# Altium footprint library PcbLib1.PcbLib: 264 footprints (part 8 of 17)
Each footprint in its own frame and in the unit in brackets; x right, y up, seen from the top. Pads: shape width x height; smd on the part's side, far side on the other; paste and mask are expansions set on the pad; w line width, h text height; cw(c..) or ccw(c..) is an arc to the next point about the centre after c.
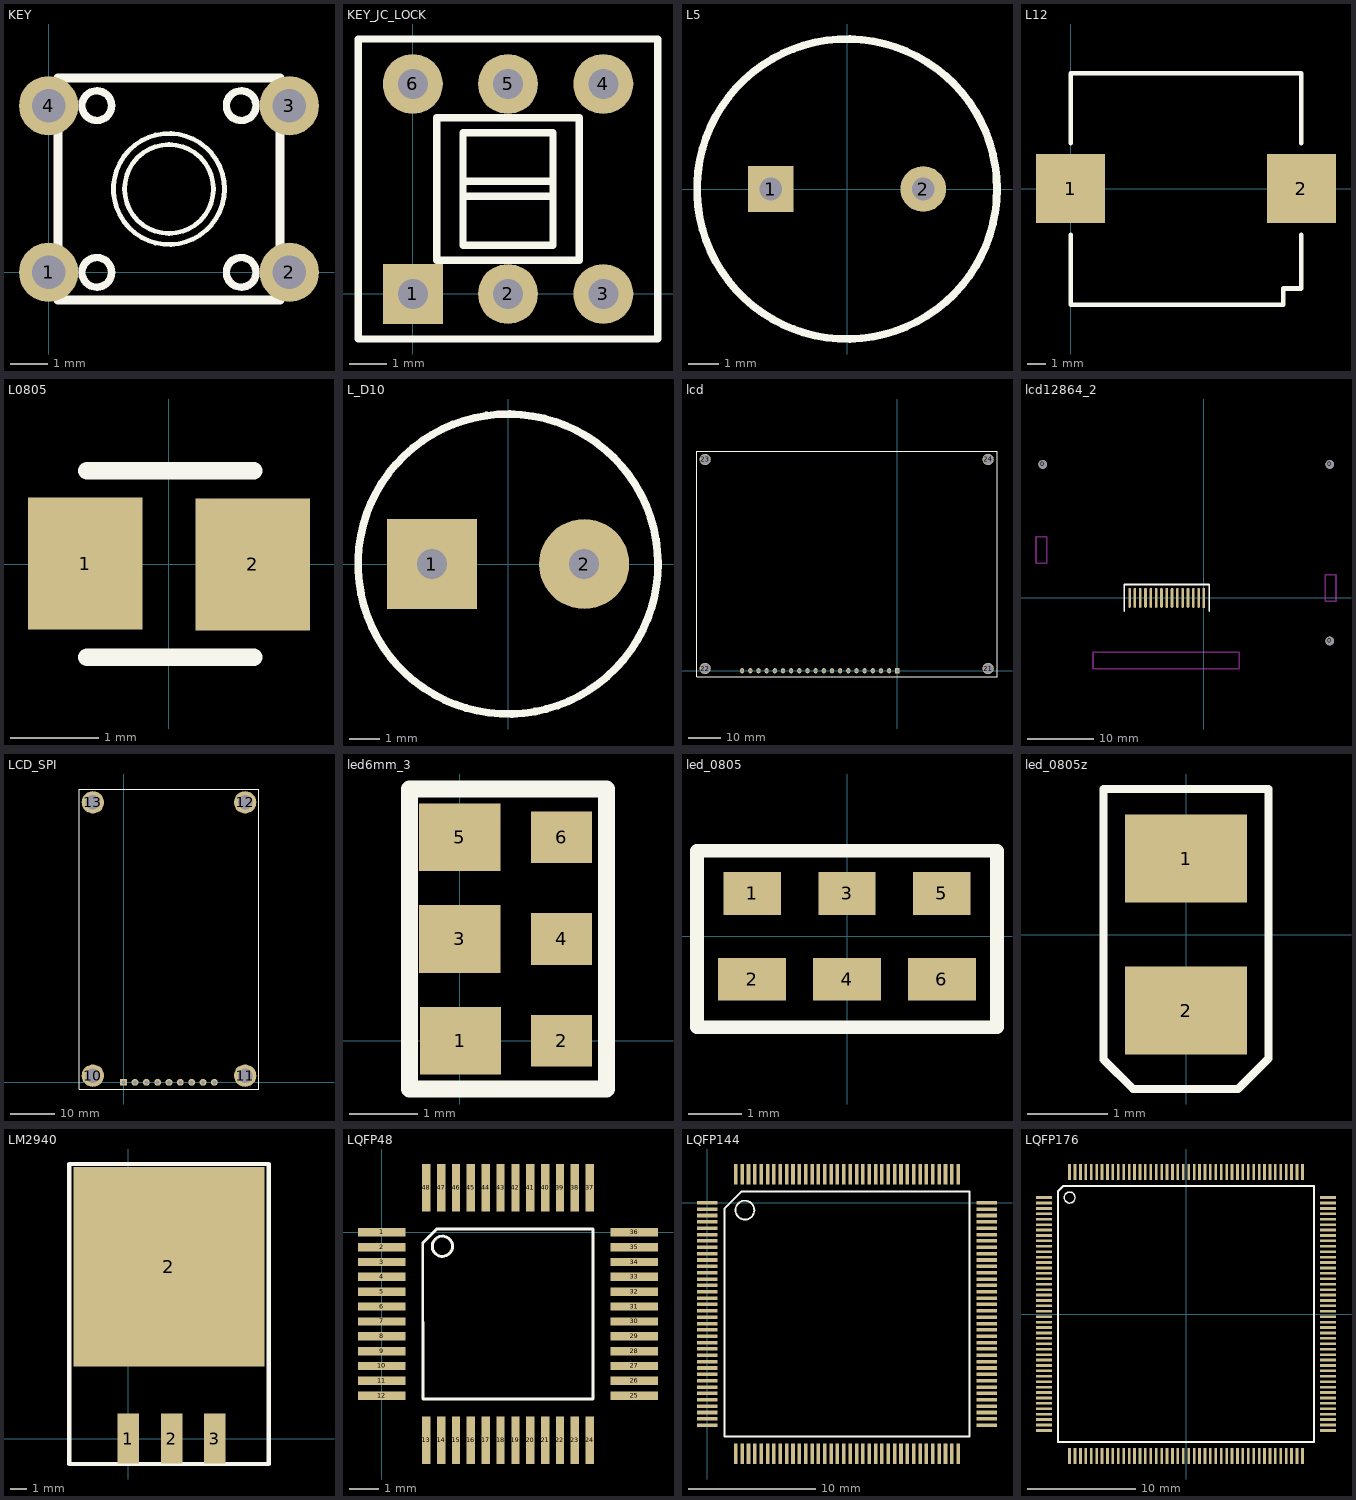
[diagram p7: the footprints below, top view; thin cyan lines are the x and y axes]

## KEY [mm]
pads (4):
  round 1.6 hole 0.9: 1(0,0) 2(6.5,0) 3(6.5,4.5) 4(0,4.5)
Top Overlay:
  circle w0.2: c1.3,0 r0.4
  circle w0.2: c5.2,0 r0.4
  circle w0.2: c5.2,4.5 r0.4
  circle w0.2: c1.3,4.5 r0.4
  circle w0.127: c3.25,2.25 r1.5
  circle w0.127: c3.25,2.25 r1.2
  lines w0.25: 0.25,-0.75 0.25,5.25 6.25,5.25 6.25,-0.75 0.25,-0.75

## KEY_JC_LOCK [mm]
pads (6):
  rect 1.6x1.6 hole 0.8: 1(0,0)
  round 1.6 hole 0.8: 2(2.54,0) 3(5.08,0) 4(5.08,5.6) 5(2.54,5.6) 6(0,5.6)
Top Overlay:
  lines w0.2: 1.34,2.6 3.74,2.6 ; 1.34,3 3.74,3 ; -1.46,-1.2 -1.46,6.8 6.54,6.8 6.54,-1.2 -1.46,-1.2 ; 0.64,0.9 4.44,0.9 4.44,4.7 0.64,4.7 0.64,0.9 ; 1.34,1.3 3.74,1.3 3.74,4.3 1.34,4.3 1.34,1.3

## L5 [mil]
pads (2):
  rect 60x60 hole 30: 1(-100,0)
  round 60 hole 30: 2(100,0)
Top Overlay:
  circle w10: c0,0 r196.85

## L12 [mm]
pads (2):
  rect 3.81x3.81 smd: 1(0,0) 2(12.7,0)
Top Overlay:
  lines w0.254: 0,-2.55 0,-6.4 11.7,-6.4 11.7,-5.5 12.7,-5.5 12.7,-2.55 ; 0,2.5 0,6.35 12.7,6.35 12.7,2.5

## L0805 [mm]
pads (2):
  rect 1.3x1.5 smd: 1(-0.95,0.01) 2(0.95,0)
Top Overlay:
  lines w0.2: -0.93,-1.05 0.96,-1.05 ; -0.93,1.06 0.96,1.06

## L_D10 [mm]
pads (2):
  rect 3x3 hole 1: 1(-2.54,0)
  round 3 hole 1: 2(2.54,0)
Top Overlay:
  lines w0.254: 5,0.031 cw(c0,0) 5,0.046

## lcd [mm]
pads (24):
  rect 1.3x1.6 hole 0.9: 1(0,0)
  oval 1.3x1.6 hole 0.9: 2(-2.54,0) 3(-5.08,0) 4(-7.62,0) 5(-10.16,0) 6(-12.7,0) 7(-15.24,0) 8(-17.78,0) 9(-20.32,0) 10(-22.86,0) 11(-25.4,0) 12(-27.94,0) 13(-30.48,0) 14(-33.02,0) 15(-35.56,0) 16(-38.1,0) 17(-40.64,0) 18(-43.18,0) 19(-45.72,0) 20(-48.26,0)
  round 3.5 hole 3: 21(28.24,0.7) 22(-59.76,0.7) 23(-59.76,65.7) 24(28.24,65.7)
Top Overlay:
  lines w0.254: -62.3,-1.8 -62.3,68.2 31,68.2 31,-1.8 -62.3,-1.8

## lcd12864_2 [mm]
pads (18):
  round 1.3 hole 1.3: 0(-24.3,20.1) 0(18.96,-6.5) 0(18.96,20.1)
  rect 0.4x3 smd: 1(0,0)
  oval 0.4x3 smd: 2(-0.8,0) 3(-1.6,0) 4(-2.4,0) 5(-3.2,0) 6(-4,0) 7(-4.8,0) 8(-5.6,0) 9(-6.4,0) 10(-7.2,0) 11(-8,0) 12(-8.8,0) 13(-9.6,0) 14(-10.4,0) 15(-11.2,0)
Top Overlay:
  lines w0.254: -12,-2 -12,2 0.8,2 0.8,-2
Bottom Overlay:
  lines w0.254: -25.2,-8.5 19.8,-8.5 19.8,20.9 -25.2,20.9 -25.2,-8.5
Keep-Out Layer:
  lines w0.254: -25.3,5.2 -25.3,9.2 -23.7,9.2 -23.7,5.2 -25.3,5.2 ; -25.3,5.2 -25.3,5.2 ; 19.9,-0.5 18.3,-0.5 18.3,3.5 19.9,3.5 19.9,-0.5 ; 19.9,-0.5 19.9,-0.5 ; -16.7,-10.7 5.3,-10.7 5.3,-8.2 -16.7,-8.2 -16.7,-10.7

## LCD_SPI [mm]
pads (13):
  rect 1.524x1.524 hole 0.9: 1(0,0)
  round 1.524 hole 0.9: 2(2.54,0) 3(5.08,0) 4(7.62,0) 5(10.16,0) 6(12.7,0) 7(15.24,0) 8(17.78,0) 9(20.32,0)
  round 5 hole 3.2: 10(-6.89,1.5) 11(27.21,1.5) 12(27.21,62.7) 13(-6.89,62.7)
Top Overlay:
  lines w0.254: -9.89,-1.5 30.21,-1.5 30.21,65.7 -9.89,65.7 -9.89,-1.5

## led6mm_3 [mm]
pads (6):
  rect 1.2x1 smd: 1(0.01,0) 3(0,1.5) 5(0,3)
  rect 0.9x0.762 smd: 2(1.5,0) 4(1.5,1.5) 6(1.5,3)
Top Overlay:
  lines w0.254: -0.74,-0.71 -0.74,3.71 2.16,3.71 2.16,-0.71 -0.74,-0.71

## led_0805 [mm]
pads (6):
  rect 1.067x0.798 smd: 1(-1.77,0.8) 3(0,0.8) 5(1.77,0.8)
  rect 1.27x0.798 smd: 2(-1.77,-0.8) 4(0,-0.8) 6(1.77,-0.8)
Top Overlay:
  lines w0.254: -2.8,-1.7 -2.8,1.6 2.8,1.6 2.8,-1.7 -2.8,-1.7

## led_0805z [mm]
pads (2):
  rect 1.524x1.1 smd: 1(0,0.95) 2(0,-0.95)
Top Overlay:
  lines w0.1: -1.03,-1.56 -0.66,-1.93 0.65,-1.93 1.03,-1.55 1.03,1.82 -1.03,1.82 -1.03,-1.56

## LM2940 [mm]
pads (4):
  rect 1.3x3 smd: 1(0,0) 2(2.6,0) 3(5.2,0)
  rect 11.5x12 smd: 2(2.44,10.32)
Top Overlay:
  lines w0.254: 8.41,-1.53 -3.556,-1.53 -3.556,16.5 8.43,16.5 8.44,16.49 8.44,-1.53

## LQFP48 [mm]
pads (48):
  rect 1.6x0.28 smd: 1(0,0) 2(0,-0.5) 3(0,-1) 4(0,-1.5) 5(0,-2) 6(0,-2.5) 7(0,-3) 8(0,-3.5) 9(0,-4) 10(0,-4.5) 11(0,-5) 12(0,-5.5) 25(8.5,-5.5) 26(8.5,-5) 27(8.5,-4.5) 28(8.5,-4) 29(8.5,-3.5) 30(8.5,-3) 31(8.5,-2.5) 32(8.5,-2) 33(8.5,-1.5) 34(8.5,-1) 35(8.5,-0.5) 36(8.5,0)
  rect 0.28x1.6 smd: 13(1.5,-7) 14(2,-7) 15(2.5,-7) 16(3,-7) 17(3.5,-7) 18(4,-7) 19(4.5,-7) 20(5,-7) 21(5.5,-7) 22(6,-7) 23(6.5,-7) 24(7,-7) 37(7,1.5) 38(6.5,1.5) 39(6,1.5) 40(5.5,1.5) 41(5,1.5) 42(4.5,1.5) 43(4,1.5) 44(3.5,1.5) 45(3,1.5) 46(2.5,1.5) 47(2,1.5) 48(1.5,1.5)
Top Overlay:
  circle w0.1: c2.04,-0.47 r0.34
  lines w0.1: 1.38,-0.36 1.85,0.11 7.115,0.115 7.115,-5.615 1.385,-5.615 1.38,-0.36

## LQFP144 [mm]
pads (144):
  rect 1.6x0.28 smd: 1(0,0) 2(0,-0.5) 3(0,-1) 4(0,-1.5) 5(0,-2) 6(0,-2.5) 7(0,-3) 8(0,-3.5) 9(0,-4) 10(0,-4.5) 11(0,-5) 12(0,-5.5) 13(0,-6) 14(0,-6.5) 15(0,-7) 16(0,-7.5) 17(0,-8) 18(0,-8.5) 19(0,-9) 20(0,-9.5) 21(0,-10) 22(0,-10.5) 23(0,-11) 24(0,-11.5) 25(0,-12) 26(0,-12.5) 27(0,-13) 28(0,-13.5) 29(0,-14) 30(0,-14.5) 31(0,-15) 32(0,-15.5) 33(0,-16) 34(0,-16.5) 35(0,-17) 36(0,-17.5) 73(22,-17.5) 74(22,-17) 75(22,-16.5) 76(22,-16) 77(22,-15.5) 78(22,-15) 79(22,-14.5) 80(22,-14) 81(22,-13.5) 82(22,-13) 83(22,-12.5) 84(22,-12) 85(22,-11.5) 86(22,-11) 87(22,-10.5) 88(22,-10) 89(22,-9.5) 90(22,-9) 91(22,-8.5) 92(22,-8) 93(22,-7.5) 94(22,-7) 95(22,-6.5) 96(22,-6) 97(22,-5.5) 98(22,-5) 99(22,-4.5) 100(22,-4) 101(22,-3.5) 102(22,-3) 103(22,-2.5) 104(22,-2) 105(22,-1.5) 106(22,-1) 107(22,-0.5) 108(22,0)
  rect 0.28x1.6 smd: 37(2.25,-19.75) 38(2.75,-19.75) 39(3.25,-19.75) 40(3.75,-19.75) 41(4.25,-19.75) 42(4.75,-19.75) 43(5.25,-19.75) 44(5.75,-19.75) 45(6.25,-19.75) 46(6.75,-19.75) 47(7.25,-19.75) 48(7.75,-19.75) 49(8.25,-19.75) 50(8.75,-19.75) 51(9.25,-19.75) 52(9.75,-19.75) 53(10.25,-19.75) 54(10.75,-19.75) 55(11.25,-19.75) 56(11.75,-19.75) 57(12.25,-19.75) 58(12.75,-19.75) 59(13.25,-19.75) 60(13.75,-19.75) 61(14.25,-19.75) 62(14.75,-19.75) 63(15.25,-19.75) 64(15.75,-19.75) 65(16.25,-19.75) 66(16.75,-19.75) 67(17.25,-19.75) 68(17.75,-19.75) 69(18.25,-19.75) 70(18.75,-19.75) 71(19.25,-19.75) 72(19.75,-19.75) 109(19.75,2.25) 110(19.25,2.25) 111(18.75,2.25) 112(18.25,2.25) 113(17.75,2.25) 114(17.25,2.25) 115(16.75,2.25) 116(16.25,2.25) 117(15.75,2.25) 118(15.25,2.25) 119(14.75,2.25) 120(14.25,2.25) 121(13.75,2.25) 122(13.25,2.25) 123(12.75,2.25) 124(12.25,2.25) 125(11.75,2.25) 126(11.25,2.25) 127(10.75,2.25) 128(10.25,2.25) 129(9.75,2.25) 130(9.25,2.25) 131(8.75,2.25) 132(8.25,2.25) 133(7.75,2.25) 134(7.25,2.25) 135(6.75,2.25) 136(6.25,2.25) 137(5.75,2.25) 138(5.25,2.25) 139(4.75,2.25) 140(4.25,2.25) 141(3.75,2.25) 142(3.25,2.25) 143(2.75,2.25) 144(2.25,2.25)
Top Overlay:
  circle w0.15: c2.968,-0.58 r0.742
  lines w0.15: 1.36,-18.39 1.36,-0.47 2.72,0.89 20.64,0.89 20.64,-18.39 1.36,-18.39

## LQFP176 [mm]
pads (176):
  rect 1.5x0.25 smd: 1(-13.1,10.75) 2(-13.1,10.25) 3(-13.1,9.75) 4(-13.1,9.25) 5(-13.1,8.75) 6(-13.1,8.25) 7(-13.1,7.75) 8(-13.1,7.25) 9(-13.1,6.75) 10(-13.1,6.25) 11(-13.1,5.75) 12(-13.1,5.25) 13(-13.1,4.75) 14(-13.1,4.25) 15(-13.1,3.75) 16(-13.1,3.25) 17(-13.1,2.75) 18(-13.1,2.25) 19(-13.1,1.75) 20(-13.1,1.25) 21(-13.1,0.75) 22(-13.1,0.25) 23(-13.1,-0.25) 24(-13.1,-0.75) 25(-13.1,-1.25) 26(-13.1,-1.75) 27(-13.1,-2.25) 28(-13.1,-2.75) 29(-13.1,-3.25) 30(-13.1,-3.75) 31(-13.1,-4.25) 32(-13.1,-4.75) 33(-13.1,-5.25) 34(-13.1,-5.75) 35(-13.1,-6.25) 36(-13.1,-6.75) 37(-13.1,-7.25) 38(-13.1,-7.75) 39(-13.1,-8.25) 40(-13.1,-8.75) 41(-13.1,-9.25) 42(-13.1,-9.75) 43(-13.1,-10.25) 44(-13.1,-10.75) 89(13.1,-10.75) 90(13.1,-10.25) 91(13.1,-9.75) 92(13.1,-9.25) 93(13.1,-8.75) 94(13.1,-8.25) 95(13.1,-7.75) 96(13.1,-7.25) 97(13.1,-6.75) 98(13.1,-6.25) 99(13.1,-5.75) 100(13.1,-5.25) 101(13.1,-4.75) 102(13.1,-4.25) 103(13.1,-3.75) 104(13.1,-3.25) 105(13.1,-2.75) 106(13.1,-2.25) 107(13.1,-1.75) 108(13.1,-1.25) 109(13.1,-0.75) 110(13.1,-0.25) 111(13.1,0.25) 112(13.1,0.75) 113(13.1,1.25) 114(13.1,1.75) 115(13.1,2.25) 116(13.1,2.75) 117(13.1,3.25) 118(13.1,3.75) 119(13.1,4.25) 120(13.1,4.75) 121(13.1,5.25) 122(13.1,5.75) 123(13.1,6.25) 124(13.1,6.75) 125(13.1,7.25) 126(13.1,7.75) 127(13.1,8.25) 128(13.1,8.75) 129(13.1,9.25) 130(13.1,9.75) 131(13.1,10.25) 132(13.1,10.75)
  rect 0.25x1.5 smd: 45(-10.75,-13.1) 46(-10.25,-13.1) 47(-9.75,-13.1) 48(-9.25,-13.1) 49(-8.75,-13.1) 50(-8.25,-13.1) 51(-7.75,-13.1) 52(-7.25,-13.1) 53(-6.75,-13.1) 54(-6.25,-13.1) 55(-5.75,-13.1) 56(-5.25,-13.1) 57(-4.75,-13.1) 58(-4.25,-13.1) 59(-3.75,-13.1) 60(-3.25,-13.1) 61(-2.75,-13.1) 62(-2.25,-13.1) 63(-1.75,-13.1) 64(-1.25,-13.1) 65(-0.75,-13.1) 66(-0.25,-13.1) 67(0.25,-13.1) 68(0.75,-13.1) 69(1.25,-13.1) 70(1.75,-13.1) 71(2.25,-13.1) 72(2.75,-13.1) 73(3.25,-13.1) 74(3.75,-13.1) 75(4.25,-13.1) 76(4.75,-13.1) 77(5.25,-13.1) 78(5.75,-13.1) 79(6.25,-13.1) 80(6.75,-13.1) 81(7.25,-13.1) 82(7.75,-13.1) 83(8.25,-13.1) 84(8.75,-13.1) 85(9.25,-13.1) 86(9.75,-13.1) 87(10.25,-13.1) 88(10.75,-13.1) 133(10.75,13.1) 134(10.25,13.1) 135(9.75,13.1) 136(9.25,13.1) 137(8.75,13.1) 138(8.25,13.1) 139(7.75,13.1) 140(7.25,13.1) 141(6.75,13.1) 142(6.25,13.1) 143(5.75,13.1) 144(5.25,13.1) 145(4.75,13.1) 146(4.25,13.1) 147(3.75,13.1) 148(3.25,13.1) 149(2.75,13.1) 150(2.25,13.1) 151(1.75,13.1) 152(1.25,13.1) 153(0.75,13.1) 154(0.25,13.1) 155(-0.25,13.1) 156(-0.75,13.1) 157(-1.25,13.1) 158(-1.75,13.1) 159(-2.25,13.1) 160(-2.75,13.1) 161(-3.25,13.1) 162(-3.75,13.1) 163(-4.25,13.1) 164(-4.75,13.1) 165(-5.25,13.1) 166(-5.75,13.1) 167(-6.25,13.1) 168(-6.75,13.1) 169(-7.25,13.1) 170(-7.75,13.1) 171(-8.25,13.1) 172(-8.75,13.1) 173(-9.25,13.1) 174(-9.75,13.1) 175(-10.25,13.1) 176(-10.75,13.1)
Top Overlay:
  circle w0.127: c-10.75,10.75 r0.508
  lines w0.2: -11.815,-11.815 11.815,-11.815 11.815,11.815 -11.334,11.815 -11.815,11.334 -11.815,-11.815